# Altium footprint library CAPC4520X200.PcbLib: 3 footprints
Each footprint in its own frame and in the unit in brackets; x right, y up, seen from the top. Pads: shape width x height; smd on the part's side, far side on the other; paste and mask are expansions set on the pad; w line width, h text height; cw(c..) or ccw(c..) is an arc to the next point about the centre after c.
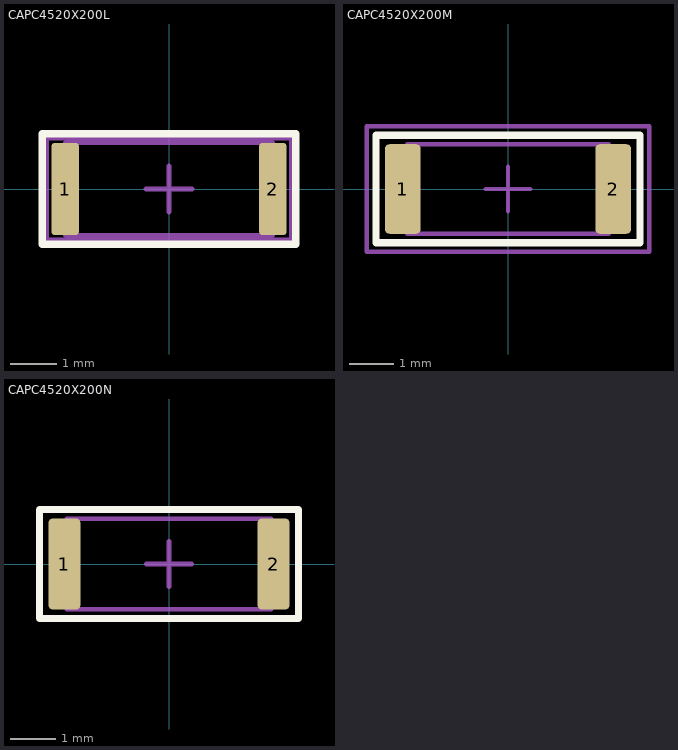
[diagram p0: the footprints below, top view; thin cyan lines are the x and y axes]

## CAPC4520X200L [mm] "Capacitors, Chip, Non-polarized"
height 2.2
pads (2):
  rrect25% 0.6x2 smd: 1(-2.25,0) 2(2.25,0)
Top Overlay:
  lines w0.16: -2.75,-1.2 2.75,-1.2 2.75,1.2 -2.75,1.2 -2.75,-1.2
Top Component Center:
  lines w0.1: -0.5,0 0.5,0 ; 0,-0.5 0,0.5
Top Courtyard:
  lines w0.1: -2.65,-1.1 2.65,-1.1 2.65,1.1 -2.65,1.1 -2.65,-1.1
Top Assembly:
  lines w0.1: -2.25,-1 2.25,-1 2.25,1 -2.25,1 -2.25,-1
  text ".Designator" at 0,0 h1
3D body "CAPC4520X200L.STEP": height 2, standoff 0, extent -2.25,-1 2.25,1

## CAPC4520X200M [mm] "Capacitors, Chip, Non-polarized"
height 2.2
pads (2):
  rrect25% 0.8x2 smd: 1(-2.35,0) 2(2.35,0)
Top Overlay:
  lines w0.16: -2.95,-1.2 2.95,-1.2 2.95,1.2 -2.95,1.2 -2.95,-1.2
Top Component Center:
  lines w0.1: -0.5,0 0.5,0 ; 0,-0.5 0,0.5
Top Courtyard:
  lines w0.1: -3.15,-1.4 3.15,-1.4 3.15,1.4 -3.15,1.4 -3.15,-1.4
Top Assembly:
  lines w0.1: -2.25,-1 2.25,-1 2.25,1 -2.25,1 -2.25,-1
  text ".Designator" at 0,0 h1
3D body "CAPC4520X200M.STEP": height 2, standoff 0, extent -2.25,-1 2.25,1

## CAPC4520X200N [mm] "Capacitors, Chip, Non-polarized"
height 2.2
pads (2):
  rrect25% 0.7x2 smd: 1(-2.3,0) 2(2.3,0)
Top Overlay:
  lines w0.16: -2.85,-1.2 2.85,-1.2 2.85,1.2 -2.85,1.2 -2.85,-1.2
Top Component Center:
  lines w0.1: -0.5,0 0.5,0 ; 0,-0.5 0,0.5
Top Courtyard:
  lines w0.1: -2.85,-1.2 2.85,-1.2 2.85,1.2 -2.85,1.2 -2.85,-1.2
Top Assembly:
  lines w0.1: -2.25,-1 2.25,-1 2.25,1 -2.25,1 -2.25,-1
  text ".Designator" at 0,0 h1
3D body "CAPC4520X200N.STEP": height 2, standoff 0, extent -2.25,-1 2.25,1